# Altium footprint library ИНС-1.PcbLib: 1 footprints
Each footprint in its own frame and in the unit in brackets; x right, y up, seen from the top. Pads: shape width x height; smd on the part's side, far side on the other; paste and mask are expansions set on the pad; w line width, h text height; cw(c..) or ccw(c..) is an arc to the next point about the centre after c.
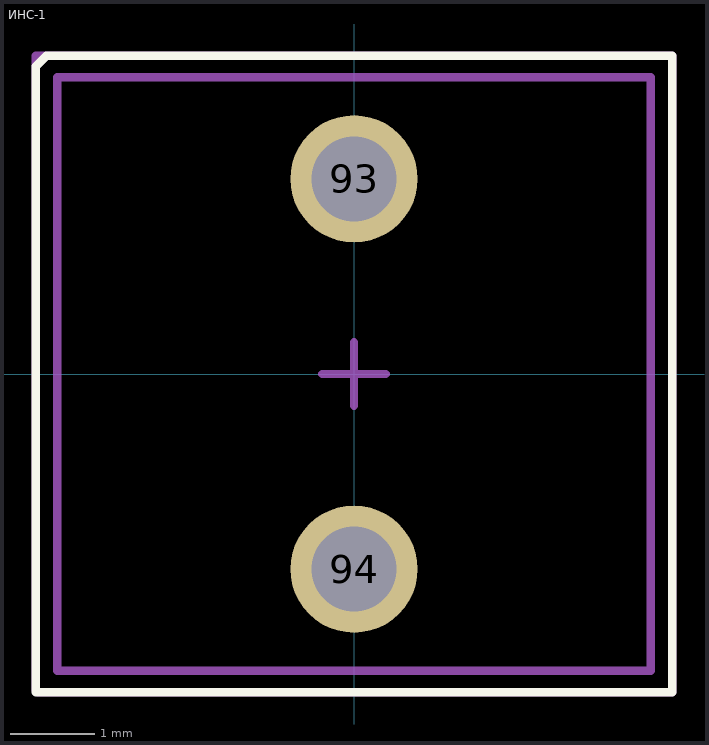
[diagram p0: the footprint, top view; thin cyan lines are the x and y axes]

## ИНС-1 [mm]
pads (2):
  round 1.5 hole 1: 93(0,2.3) 94(0,-2.3)
Top Overlay:
  lines w0.1: -3.75,-3.75 -3.75,3.625 -3.719,3.656 -3.656,3.719 -3.625,3.75 3.75,3.75 3.75,-3.75 -3.75,-3.75
Top Assy:
  lines w0.1: -3.5,-3.5 -3.5,3.5 3.5,3.5 3.5,-3.5 -3.5,-3.5
Border:
  lines w0.1: -0.375,0 0.375,0 ; 0,-0.375 0,0.375 ; -3.75,-3.725 -3.75,3.75 3.75,3.75 3.75,-3.75 -3.725,-3.75 -3.75,-3.725
3D body "ИНС-1.step": height 24, standoff -5.3, extent -3.5,-3.5 3.5,3.5